# Altium footprint library Shield.PcbLib: 10 footprints
Each footprint in its own frame and in the unit in brackets; x right, y up, seen from the top. Pads: shape width x height; smd on the part's side, far side on the other; paste and mask are expansions set on the pad; w line width, h text height; cw(c..) or ccw(c..) is an arc to the next point about the centre after c.
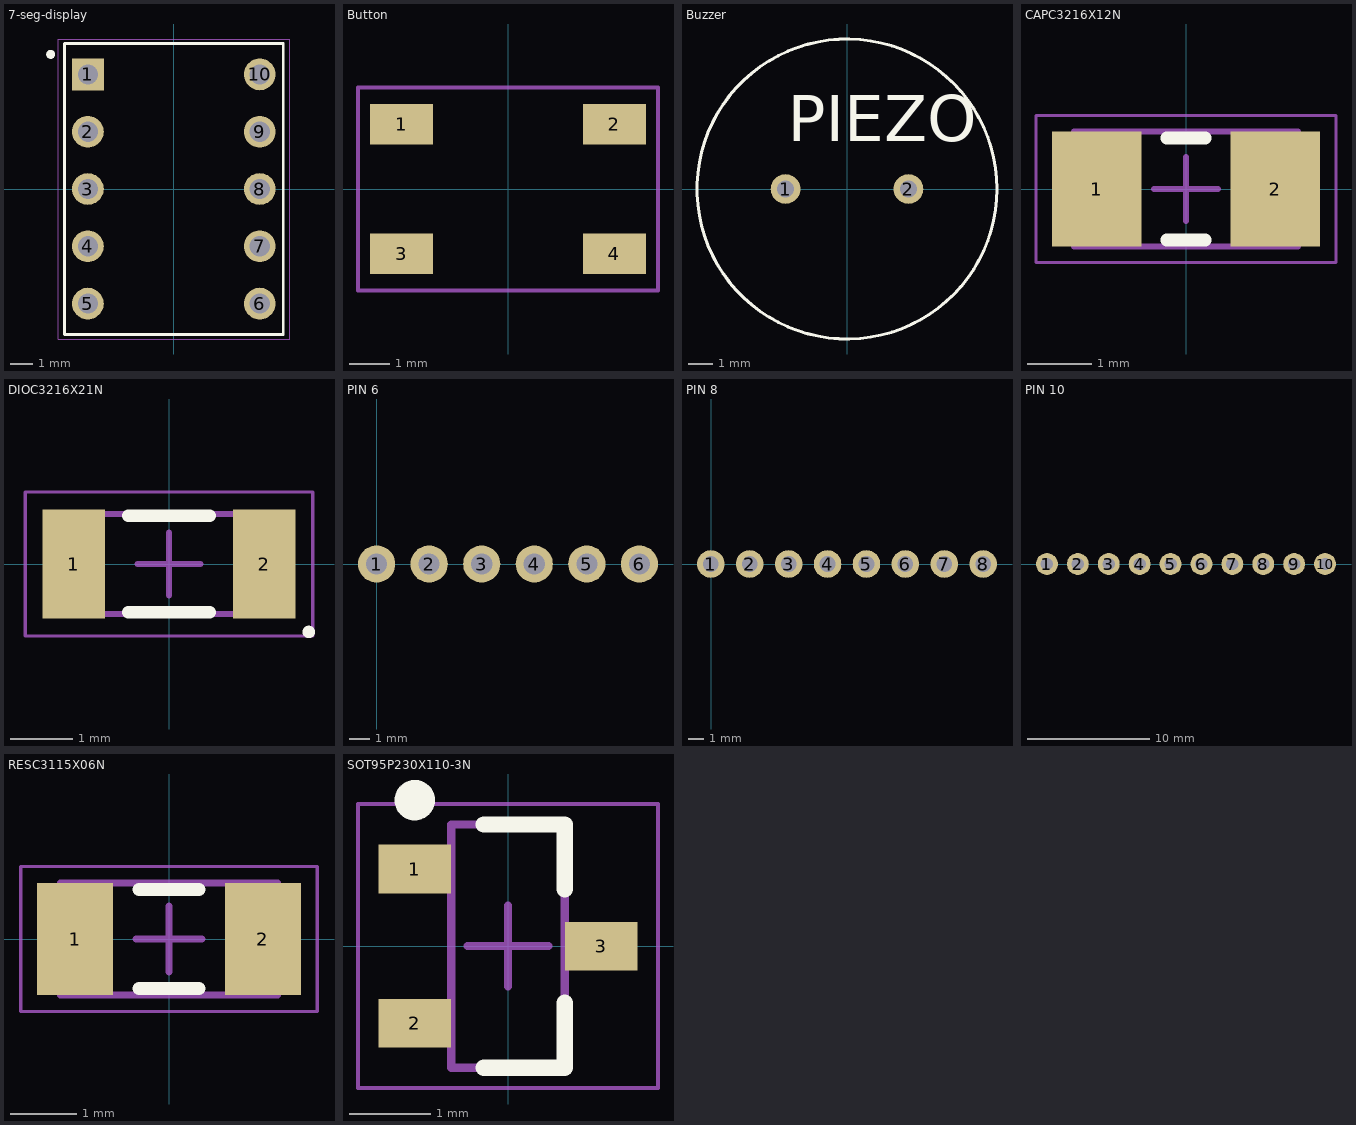
[diagram p0: the footprints below, top view; thin cyan lines are the x and y axes]

## 7-seg-display [mm]
pads (10):
  rect 1.408x1.408 hole 0.9: 1(-3.81,5.08)
  round 1.408 hole 0.9: 2(-3.81,2.54) 3(-3.81,0) 4(-3.81,-2.54) 5(-3.81,-5.08) 6(3.81,-5.08) 7(3.81,-2.54) 8(3.81,0) 9(3.81,2.54) 10(3.81,5.08)
Top Overlay:
  circle w0.2: c-5.46,5.97 r0.1
  lines w0.127: -4.85,-6.45 4.85,-6.45 4.85,6.45 -4.85,6.45 -4.85,-6.45
Mechanical 16:
  lines w0.05: -5.13,-6.65 -5.13,6.65 5.13,6.65 5.13,-6.65 -5.13,-6.65
3D body "SC36-11YWA v9.step": height 8.5, standoff -4, extent -3.9,-6.675 3.6,7.325

## Button [mm]
pads (4):
  rect 1.55x1 smd: 1(-2.625,1.6) 2(2.625,1.6) 3(-2.625,-1.6) 4(2.625,-1.6)
Mechanical 15:
  lines w0.1: -3.7,-2.5 -3.7,2.5 3.7,2.5 3.7,-2.5 -3.7,-2.5
3D body "Tact Switch SMD 4.5x4.5mm.stp": height 3.8, standoff 0, extent -3.75,-2.25 3.75,2.25

## Buzzer [mm]
pads (2):
  round 1.208 hole 0.7: 1(-2.5,0) 2(2.5,0)
Top Overlay:
  circle w0.127: c0,0 r6.101
  text "PIEZO" at -2.401,1.951 h1.88
3D body "PS1240P02BT--3DModel-STEP-56544.STEP": height 6, standoff -15, extent -6.1,-6.1 6.1,6.1

## CAPC3216X12N [mm] "Chip Capacitor, 2-Leads, Body 3,20x1,60mm, IPC Medium Density"
height 1.2
pads (2):
  rect 1.4x1.8 smd: 1(-1.4,0) 2(1.4,0)
Top Overlay:
  lines w0.2: -0.3,-0.8 0.3,-0.8 ; -0.3,0.8 0.3,0.8
Mechanical 13:
  lines w0.1: -1.75,-0.9 -1.75,0.9 1.75,0.9 1.75,-0.9 -1.75,-0.9
Mechanical 15:
  lines w0.05: -2.35,-1.15 -2.35,1.15 2.35,1.15 2.35,-1.15 -2.35,-1.15
  lines w0.1: -0.5,0 0.5,0 ; 0,-0.5 0,0.5
3D body "CAPC3216X12N.step": height 1.2, standoff 0, extent -1.75,-0.9 1.75,0.9

## DIOC3216X21N [mm] "Chip Diode, 2-Leads, Body 3,20x1,60mm, IPC Medium Density"
height 2.06
pads (2):
  rect 1x1.75 smd: 1(-1.525,0) 2(1.525,0)
Top Overlay:
  circle w0.1: c2.237,-1.087 r0.05
  lines w0.2: -0.65,-0.775 0.65,-0.775 ; -0.65,0.775 0.65,0.775
Mechanical 13:
  lines w0.1: -1.6,-0.8 -1.6,0.8 1.6,0.8 1.6,-0.8 -1.6,-0.8
Mechanical 15:
  lines w0.05: -2.3,-1.15 -2.3,1.15 2.3,1.15 2.3,-1.15 -2.3,-1.15
  lines w0.1: -0.5,0 0.5,0 ; 0,-0.5 0,0.5
3D body "DIOC3216X21N.step": height 2.06, standoff 0, extent -1.6,-0.8 1.6,0.8

## PIN 6 [mm]
pads (6):
  round 1.8 hole 1.02: 1(0,0) 2(2.54,0) 3(5.08,0) 4(7.62,0) 5(10.16,0) 6(12.7,0)

## PIN 8 [mm]
pads (8):
  round 1.8 hole 1.02: 1(-0.025,0) 2(2.515,0) 3(5.055,0) 4(7.595,0) 5(10.135,0) 6(12.675,0) 7(15.215,0) 8(17.755,0)

## PIN 10 [mm]
pads (10):
  round 1.8 hole 1.02: 1(-91.575,0) 2(-89.035,0) 3(-86.495,0) 4(-83.955,0) 5(-81.415,0) 6(-78.875,0) 7(-76.335,0) 8(-73.795,0) 9(-71.255,0) 10(-68.715,0)

## RESC3115X06N [mm] "Chip Resistor, 2-Leads, Body 3,10x1,50mm, IPC Medium Density"
height 0.6
pads (2):
  rect 1.15x1.7 smd: 1(-1.425,0) 2(1.425,0)
Top Overlay:
  lines w0.2: -0.45,-0.75 0.45,-0.75 ; -0.45,0.75 0.45,0.75
Mechanical 13:
  lines w0.1: -1.65,-0.85 -1.65,0.85 1.65,0.85 1.65,-0.85 -1.65,-0.85
Mechanical 15:
  lines w0.05: -2.25,-1.1 -2.25,1.1 2.25,1.1 2.25,-1.1 -2.25,-1.1
  lines w0.1: -0.5,0 0.5,0 ; 0,-0.5 0,0.5
3D body "RESC3115X06N.step": height 0.6, standoff 0, extent -1.65,-0.85 1.65,0.85

## SOT95P230X110-3N [mm] "SOT23, 3-Leads, Body 2,90x2,30mm, Pitch 0,95mm, IPC Medium Density"
height 1.1
pads (3):
  rect 0.9x0.6 smd: 1(-1.15,0.95) 2(-1.15,-0.95) 3(1.15,0)
Top Overlay:
  circle w0.25: c-1.15,1.8 r0.125
  lines w0.2: -0.3,-1.5 0.7,-1.5 0.7,-0.7 ; -0.3,1.5 0.7,1.5 0.7,0.7
Mechanical 13:
  lines w0.1: -0.7,-1.5 0.7,-1.5 0.7,1.5 -0.7,1.5 -0.7,-1.5
Mechanical 15:
  lines w0.05: -1.85,-1.75 1.85,-1.75 1.85,1.75 -1.85,1.75 -1.85,-1.75
  lines w0.1: -0.5,0 0.5,0 ; 0,-0.5 0,0.5
3D body "SOT95P230X110-3N.step": height 1.1, standoff 0, extent -1.3,-1.5 1.3,1.5